# Altium footprint library Footprints.PcbLib: 43 footprints (part 1 of 3)
Each footprint in its own frame and in the unit in brackets; x right, y up, seen from the top. Pads: shape width x height; smd on the part's side, far side on the other; paste and mask are expansions set on the pad; w line width, h text height; cw(c..) or ccw(c..) is an arc to the next point about the centre after c.
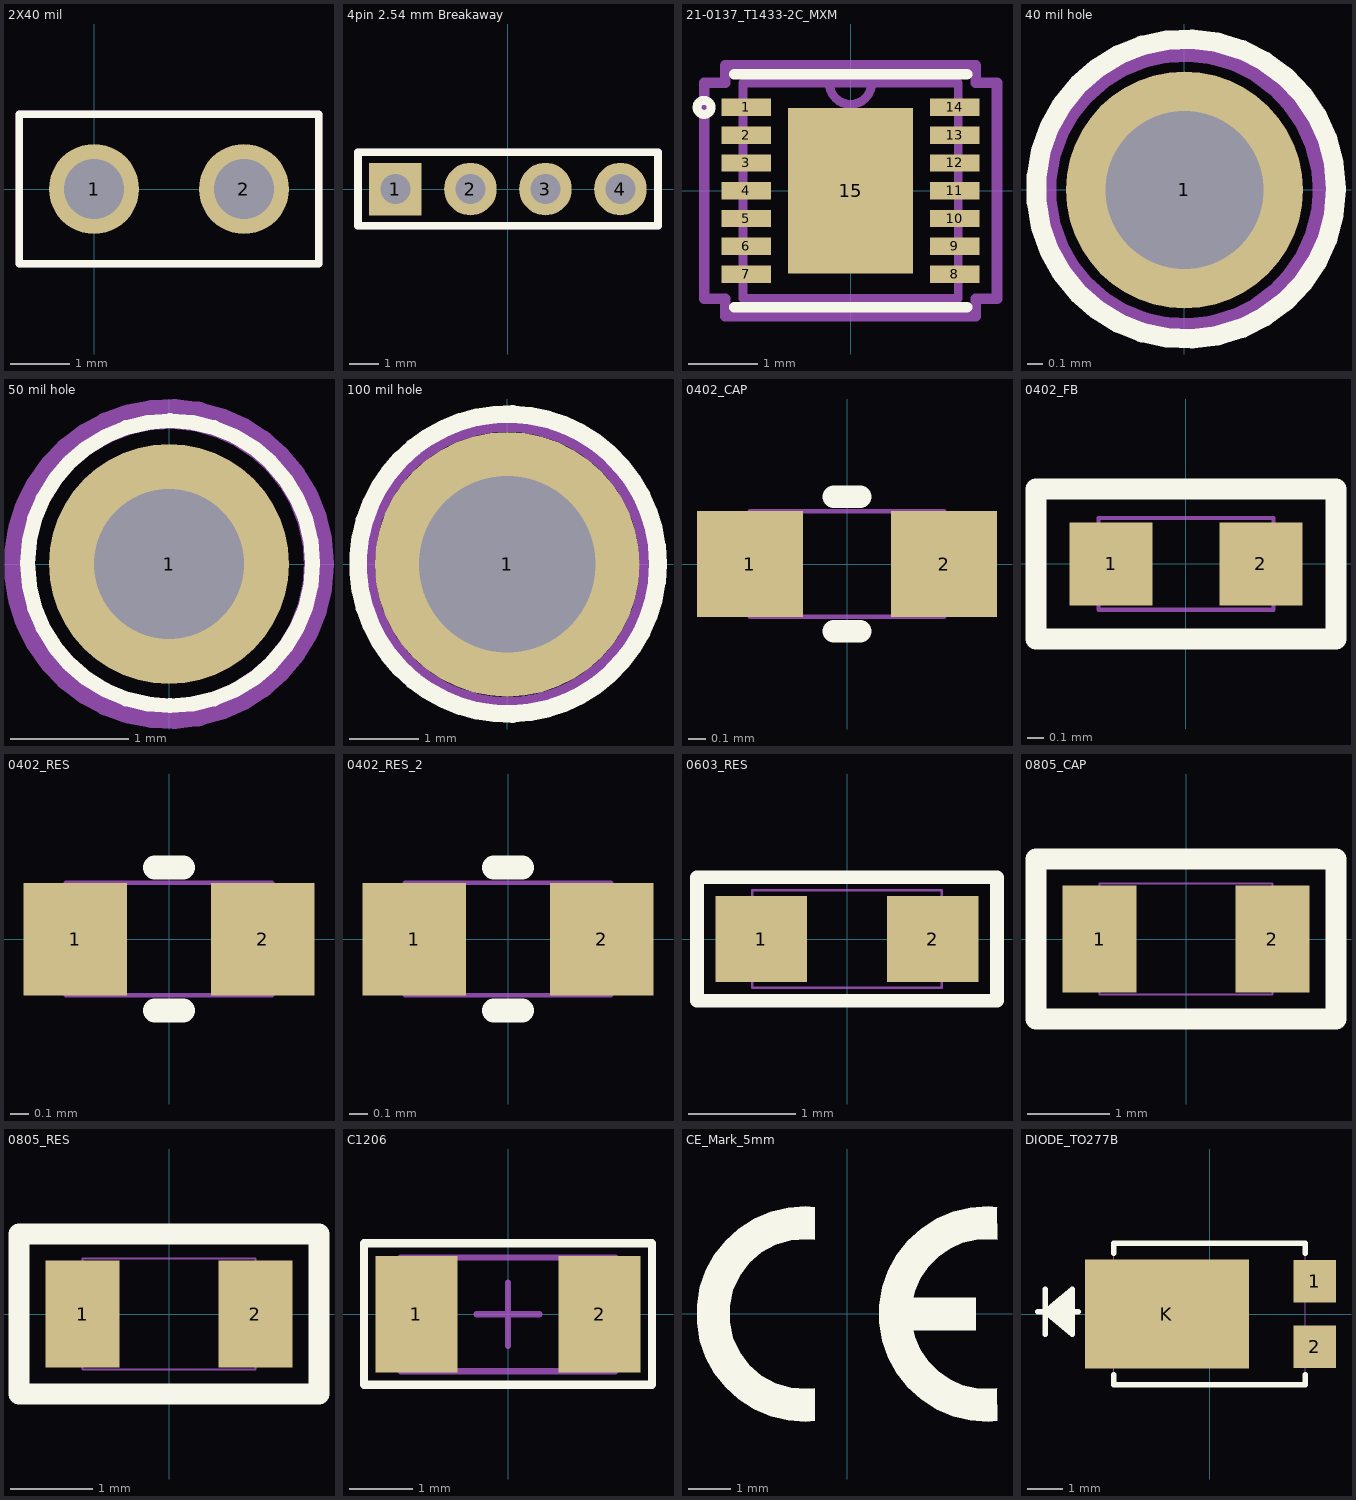
[diagram p0: the footprints below, top view; thin cyan lines are the x and y axes]

## 2X40 mil [mil] "This is used to mount hook up wire to the board"
pads (2):
  round 60 hole 40 mask+2: 1(0,0) 2(100,0)
Top Overlay:
  lines w5: -50,-50 -50,50 150,50 150,-50 -50,-50
Top Assembly:
  lines w5: -50,-50 150,-50 150,50 -50,50 -50,-50
  text ".designator" at 0.11,-17.02 h60

## 4pin 2.54 mm Breakaway [mil] "TE  Verticle 5 pin Debug header"
height 125
pads (4):
  rect 70x70 hole 40: 1(-150,0)
  round 70 hole 40: 2(-50,0) 3(50,0) 4(150,0)
Top Overlay:
  lines w10: -199.99,-49 -199.99,49 200,49 200,-49 -199.99,-49
Top Assembly:
  lines w10: -199.99,-49 -199.99,49 200,49 200,-49 -199.99,-49
  text ".Designator" at -19.47,25.98 h60
3D body "PEC04SFAN.STEP": height 412.6, standoff -125.59, extent -200,-49 200,51

## 21-0137_T1433-2C_MXM [mil]
pads (15):
  rect 28x9.84 smd paste+0 mask+0: 1(-59,47.24) 2(-59,31.5) 3(-59,15.75) 4(-59,0) 5(-59,-15.75) 6(-59,-31.5) 7(-59,-47.24) 8(59,-47.24) 9(59,-31.5) 10(59,-15.75) 11(59,0) 12(59,15.75) 13(59,31.5) 14(59,47.24)
  rect 71x94 smd paste+0 mask+0: 15(0,0)
Top Overlay:
  circle w5: c-83,47.24 r4.01
  lines w6: -66,-66 66,-66 ; -66,66 66,66
Top Assembly:
  lines w5: -12,61 ccw(c0,61) 12,61 ; -61,-61 -61,61 61,61 61,-61 -61,-61
  text ".Designator" at 18.96,-50.94 h60
Mechanical 15:
  lines w6: -83,-61.24 -71,-61.24 -71,-71 71,-71 71,-61.24 83,-61.24 83,61.24 71,61.24 71,71 -71,71 -71,61.24 -83,61.24 -83,-61.24
3D body "21-0137_T1433-2C_MXM.step": height 32.09, standoff 0, extent -60.98,-60.98 60.99,60.99

## 40 mil hole [mil] "This is used to mount hook up wire to the board"
pads (1):
  round 60 hole 40 mask+2: 1(0,0)
Top Overlay:
  circle w5: c0.4,0.25 r38
Top Assembly:
  circle w5: c0,0 r35
  text ".designator" at -8.94,22.91 h28

## 50 mil hole [mil] "This is used to mount hook up wire to the board"
pads (1):
  round 80 hole 50 mask+2: 1(0,0)
Top Overlay:
  circle w5: c0.4,0.25 r47.5
Top Assembly:
  circle w10: c0,0 r50
  text ".designator" at -16.55,-9.88 h30

## 100 mil hole [mm] "This is used to mount hook up wire to the board"
pads (1):
  round 3.81 hole 2.54 mask+0.051: 1(0,0)
Top Overlay:
  circle w0.254: c0.01,0.006 r2.159
Top Assembly:
  circle w0.254: c0,0 r2.032
  text ".designator" at -0.579,-0.272 h0.76

## 0402_CAP [mm] "0402 (1005) SMD Capacitor"
height 0.55
pads (2):
  rect 0.6x0.6 smd mask+0: 1(-0.55,0) 2(0.55,0)
Top Overlay:
  lines w0.127: -0.076,-0.381 0.076,-0.381 ; -0.076,0.381 0.076,0.381
Top Assembly:
  lines w0.025: -0.55,-0.3 0.55,-0.3 0.55,0.3 -0.55,0.3 -0.55,-0.3
  text ".Designator" at 0.503,0.199 h0.64
3D body "User Library-0402(1005M) Cap.step": height 0.5, standoff -0.01, extent -0.508,-0.254 0.508,0.254

## 0402_FB [mil] "0402 (1005) SMD Ferrite Bead"
height 22
pads (2):
  rect 20x20 smd mask+2: 1(-18,0) 2(18,0)
Top Overlay:
  lines w5: -36,-18 36,-18 36,18 -36,18 -36,-18
Top Assembly:
  lines w1: -21,-11 21,-11 21,11 -21,11 -21,-11
  text ".Designator" at 19.39,8.14 h25
3D body "FER 0402.STEP": height 20.63, standoff 0, extent -19.68,-10.31 19.69,10.32

## 0402_RES [mm] "0402 (1005) SMD Resistor"
height 0.55
pads (2):
  rect 0.55x0.6 smd mask+0: 1(-0.5,0) 2(0.5,0)
Top Overlay:
  lines w0.127: -0.076,-0.381 0.076,-0.381 ; -0.076,0.381 0.076,0.381
Top Assembly:
  lines w0.025: -0.55,-0.3 0.55,-0.3 0.55,0.3 -0.55,0.3 -0.55,-0.3
  text ".Designator" at -0.48,-0.217 h0.64
3D body "RES 0402.STEP": height 0.35, standoff 0, extent -0.5,-0.25 0.5,0.25

## 0402_RES_2 [mm]
pads (2):
  rect 0.55x0.6 smd mask+0: 1(-0.5,0) 2(0.5,0)
Top Overlay:
  lines w0.127: -0.076,-0.381 0.076,-0.381 ; -0.076,0.381 0.076,0.381
Top Assembly:
  lines w0.025: -0.55,-0.3 0.55,-0.3 0.55,0.3 -0.55,0.3 -0.55,-0.3
  text ".Designator" at 0.297,0.186 h0.64
3D body "RES 0402.STEP": height 0.35, standoff 0, extent -0.5,-0.25 0.5,0.25

## 0603_RES [mm] "0603 (1608) SMD Resistor"
height 0.95
pads (2):
  rect 0.85x0.8 smd: 1(-0.8,0) 2(0.8,0)
Top Overlay:
  lines w0.127: -1.4,-0.575 1.4,-0.575 1.4,0.575 -1.4,0.575 -1.4,-0.575
Top Assembly:
  lines w0.025: -0.885,-0.455 -0.885,0.455 0.885,0.455 0.885,-0.455 -0.885,-0.455
  text ".Designator" at -0.481,-0.198 h0.64
3D body "RESC-0603.stp": height 0.55, standoff 0, extent -0.85,-0.45 0.85,0.45

## 0805_CAP [mm] "0805 (2012) SMD Capacitor Non Polarized"
height 0.6
pads (2):
  rect 0.9x1.3 smd: 1(-1.05,0) 2(1.05,0)
Top Overlay:
  lines w0.254: -1.825,-0.975 1.825,-0.975 1.825,0.975 -1.825,0.975 -1.825,-0.975
Top Assembly:
  lines w0.025: -1.05,-0.675 1.05,-0.675 1.05,0.675 -1.05,0.675 -1.05,-0.675
  text ".Designator" at 0.506,0.237 h0.64
3D body "CAPC-0805-T0.95-BN.stp": height 0.95, standoff 0, extent -1.05,-0.675 1.05,0.675

## 0805_RES [mm] "0805 (2012) SMD Resistor"
height 0.6
pads (2):
  rect 0.9x1.3 smd: 1(-1.05,0) 2(1.05,0)
Top Overlay:
  lines w0.254: -1.825,-0.975 1.825,-0.975 1.825,0.975 -1.825,0.975 -1.825,-0.975
Top Assembly:
  lines w0.025: -1.05,-0.675 1.05,-0.675 1.05,0.675 -1.05,0.675 -1.05,-0.675
  text ".Designator" at 0.49,0.201 h0.64
3D body "RESC-0805.stp": height 0.6, standoff 0, extent -1.05,-0.675 1.05,0.675

## C1206 [mm]
pads (2):
  rect 1.3x1.85 smd mask+0.051: 1(-1.45,0) 2(1.45,0)
Top Overlay:
  lines w0.127: -2.283,-1.115 2.281,-1.115 2.281,1.125 -2.283,1.125 -2.283,-1.115
Top Assembly:
  lines w0.1: -1.7,-0.9 1.7,-0.9 1.7,0.9 -1.7,0.9 -1.7,-0.9
  text ".Designator" at 0.822,0.47 h1.52
Mechanical 15:
  lines w0.1: -0.5,0 0.5,0 ; 0,-0.5 0,0.5
3D body "User Library-C SMD 1206.step": height 0.94, standoff 0, extent -1.575,-0.813 1.625,0.788

## CE_Mark_5mm [mm]
Top Overlay:
  region: 3.5,1.732 3.337,1.748 3.01,1.733 2.691,1.658 2.392,1.525 2.123,1.339 1.894,1.106 1.712,0.834 1.583,0.533 1.541,0.375 3,0.375 3,-0.375 1.541,-0.375 1.583,-0.533 1.712,-0.834 1.894,-1.106 2.123,-1.339 2.392,-1.525 2.691,-1.658 3.01,-1.733 3.337,-1.748 3.5,-1.732 3.5,-2.487 3.292,-2.508 2.874,-2.48 2.467,-2.383 2.081,-2.22 1.728,-1.994 1.418,-1.714 1.158,-1.385 0.957,-1.018 0.82,-0.622 0.75,-0.209 0.75,0.209 0.82,0.622 0.957,1.018 1.158,1.385 1.418,1.714 1.728,1.994 2.081,2.22 2.467,2.383 2.874,2.48 3.292,2.508 3.5,2.487
  region: -0.75,2.487 -0.958,2.508 -1.376,2.48 -1.783,2.383 -2.169,2.22 -2.522,1.994 -2.832,1.714 -3.092,1.385 -3.293,1.018 -3.43,0.622 -3.5,0.209 -3.5,-0.209 -3.43,-0.622 -3.293,-1.018 -3.092,-1.385 -2.832,-1.714 -2.522,-1.994 -2.169,-2.22 -1.783,-2.383 -1.376,-2.48 -0.958,-2.508 -0.75,-2.487 -0.75,-1.732 -0.937,-1.749 -1.31,-1.722 -1.669,-1.617 -1.998,-1.438 -2.281,-1.193 -2.505,-0.893 -2.66,-0.553 -2.74,-0.187 -2.74,0.187 -2.66,0.553 -2.505,0.893 -2.281,1.193 -1.998,1.438 -1.669,1.617 -1.31,1.722 -0.937,1.749 -0.75,1.732

## DIODE_TO277B [mm]
pads (3):
  rect 1.2x1.2 smd paste+0 mask+0.05: 1(2.95,0.92) 2(2.95,-0.92)
  rect 4.6x3.05 smd paste+0 mask+0.05: K(-1.2,0)
Top Overlay:
  lines w0.152: -4.833,0.063 -3.69,0.063 ; -4.616,-0.572 -4.616,0.698 ; -3.854,-0.445 -4.616,0.063 ; -3.854,-0.318 -4.616,0.063 ; -3.854,-0.191 -4.616,0.063 ; -3.854,-0.064 -4.616,0.063 ; -3.854,0.19 -4.616,0.063 ; -3.854,0.317 -4.616,0.063 ; -3.854,0.444 -4.616,0.063 ; -3.854,0.571 -4.616,0.063 ; -2.69,-1.99 2.69,-1.99 2.69,-1.7 ; -2.69,1.7 -2.69,1.99 2.69,1.99 2.69,1.7 ; -2.688,-1.99 -2.688,-1.7 ; -4.616,0.063 -3.854,-0.572 -3.854,0.698 -4.616,0.063
Top Assembly:
  lines w0.025: -4.875,0.066 -3.605,0.066 ; -4.621,-0.569 -4.621,0.701 ; -3.859,-0.442 -4.621,0.066 ; -3.859,-0.315 -4.621,0.066 ; -3.859,-0.188 -4.621,0.066 ; -3.859,-0.061 -4.621,0.066 ; -3.859,0.193 -4.621,0.066 ; -3.859,0.32 -4.621,0.066 ; -3.859,0.447 -4.621,0.066 ; -3.859,0.574 -4.621,0.066 ; -4.621,0.066 -3.859,-0.569 -3.859,0.701 -4.621,0.066 ; -2.69,-1.99 2.69,-1.99 2.69,1.99 -2.69,1.99 -2.69,-1.99
  text ".Designator" at -0.693,-0.467 h1.52
3D body "TO-277B.step": height 1.27, standoff 0, extent -3.25,-1.99 3.25,1.99